# EAGLE library part WIRL-PRO9_2609011091000 (library WE_WIRL_Rev13.0)
Telesto-III - Radio Modules 915 MHz WIRL-PRO9 Radio module 915MHz low power Details see: https://we-online.de/katalog/en/article/2609011091000/
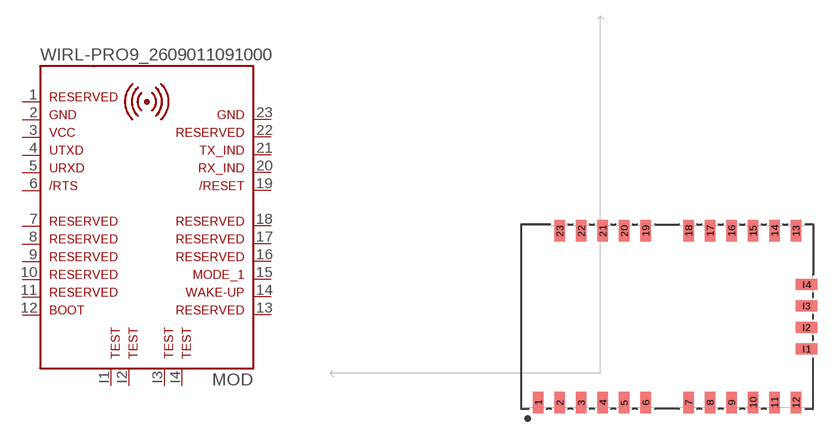
[diagram p13: symbol with the pads of WE-FP-1+; footprint WE-FP-1+]

Designator prefix MOD

## WIRL-PRO9_2609011091000 (HEIGHT: 3.2mm; MANUFACTURER: Würth Elektronik; NR: 2609011091000)  [WE-FP-1+]
1  1  pas
2  2  pas
3  3  pas
4  4  out
5  5  in
6  6  out
7  7  in
8  8  pas
9  9  pas
10  10  pas
11  11  pas
12  12  in
13  13  pas
14  14  in
15  15  pas
16  16  pas
17  17  pas
18  18  pas
19  19  in
20  20  out
21  21  out
22  22  pas
23  23  pas
I1  I1  pas
I2  I2  pas
I3  I3  pas
I4  I4  pas

## Footprint WE-FP-1+ (pad centres in mm)
smd 1 x 2: 1 -12,-8; 2 -10,-8; 3 -8,-8; 4 -6,-8; 5 -4,-8; 6 -2,-8; 7 2,-8; 8 4,-8; 9 6,-8; 10 8,-8; 11 10,-8; 12 12,-8; 13 12,8; 14 10,8; 15 8,8; 16 6,8; 17 4,8; 18 2,8; 19 -2,8; 20 -4,8; 21 -6,8; 22 -8,8; 23 -10,8
smd 2 x 1: I1 13,-3; I2 13,-1; I3 13,1; I4 13,3